# EAGLE library part USB4151-GF-C_REVA (library OTG_C)
USB Type C Plug, Vertical, SMT Check prices <https://pricing.snapeda.com/parts/USB4151-GF-C/Global%20Connector%20Technology/view-part?ref=eda>
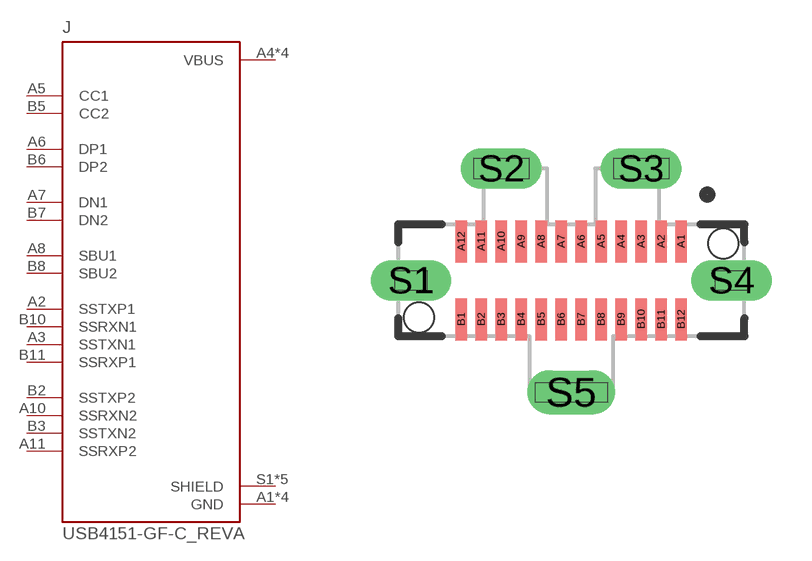
[diagram p2: symbol with the pads of GCT_USB4151-GF-C_REVA; footprint GCT_USB4151-GF-C_REVA]

Designator prefix J

## USB4151-GF-C_REVA (AVAILABILITY: In Stock; DESCRIPTION: USB Type C 3.1 vertical surface mount connector, 11.10mm profile, 24 Pins, Through hole; MF: Global Connector Technology; MP: USB4151-GF-C; PACKAGE: None; PRICE: None; PURCHASE-URL: https://pricing.snapeda.com/search/part/USB4151-GF-C/?ref=eda)  [GCT_USB4151-GF-C_REVA]
A1  GND  pwr
A2  SSTXP1  pas
A3  SSTXN1  pas
A4  VBUS  pwr
A5  CC1  pas
A6  DP1  pas
A7  DN1  pas
A8  SBU1  pas
A9  VBUS  pwr
A10  SSRXN2  pas
A11  SSRXP2  pas
A12  GND  pwr
B1  GND  pwr
B2  SSTXP2  pas
B3  SSTXN2  pas
B4  VBUS  pwr
B5  CC2  pas
B6  DP2  pas
B7  DN2  pas
B8  SBU2  pas
B9  VBUS  pwr
B10  SSRXN1  pas
B11  SSRXP1  pas
B12  GND  pwr
S1  SHIELD  pas
S2  SHIELD  pas
S3  SHIELD  pas
S4  SHIELD  pas
S5  SHIELD  pas

## Footprint GCT_USB4151-GF-C_REVA (pad centres in mm)
smd 0.28 x 1.05: A1 2.75,0.975; A2 2.25,0.975; A3 1.75,0.975; A4 1.25,0.975; A5 0.75,0.975; A6 0.25,0.975; A7 -0.25,0.975; A8 -0.75,0.975; A9 -1.25,0.975; A10 -1.75,0.975; A11 -2.25,0.975; A12 -2.75,0.975; B1 -2.75,-0.975; B2 -2.25,-0.975; B3 -1.75,-0.975; B4 -1.25,-0.975; B5 -0.75,-0.975; B6 -0.25,-0.975; B7 0.25,-0.975; B8 0.75,-0.975; B9 1.25,-0.975; B10 1.75,-0.975; B11 2.25,-0.975; B12 2.75,-0.975
drill 0.5 pad 0.85 long: S1 -4.01,0; S4 4.01,0
drill 0.5 pad 1 long: S2 -1.75,2.8; S3 1.75,2.8
drill 0.5 pad 1.1 long: S5 0,-2.8
hole 0.75 at 3.81,0.92
hole 0.75 at -3.81,-0.93